# Altium footprint library PcbLib1.PcbLib: 13 footprints
Each footprint in its own frame and in the unit in brackets; x right, y up, seen from the top. Pads: shape width x height; smd on the part's side, far side on the other; paste and mask are expansions set on the pad; w line width, h text height; cw(c..) or ccw(c..) is an arc to the next point about the centre after c.
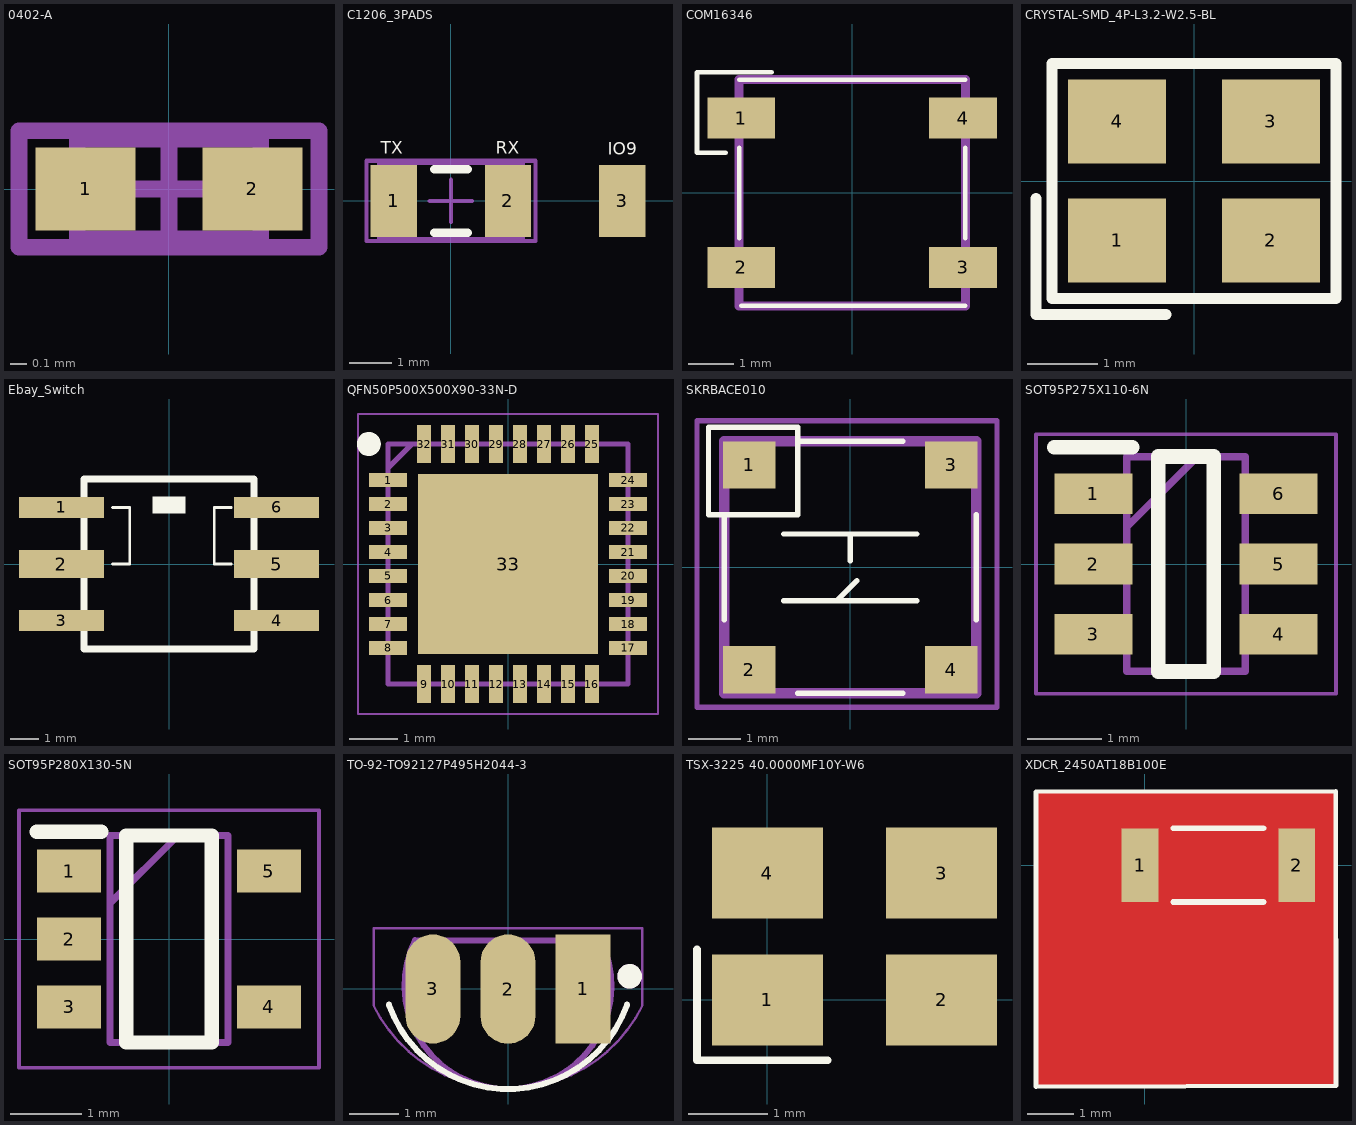
[diagram p0: the footprints below, top view; thin cyan lines are the x and y axes]

## 0402-A [mm] "Chip Inductor, Body 1.0x0.5mm, IPC High Density"
height 0.55
pads (2):
  rect 0.6x0.5 smd: 1(-0.5,0) 2(0.5,0)
Mechanical 13:
  lines w0.1: -0.55,-0.3 0.55,-0.3 0.55,0.3 -0.55,0.3 -0.55,-0.3
Mechanical 15:
  lines w0.1: -0.3,0 0.3,0 ; 0,-0.3 0,0.3 ; -0.9,-0.35 0.9,-0.35 0.9,0.35 -0.9,0.35 -0.9,-0.35
3D body: height 0.55, standoff 0, extent -0.55,-0.3 0.55,0.3

## C1206_3PADS [mm] "Chip Capacitor, Body 3.2x1.6mm, IPC High Density"
height 1.3
pads (3):
  rect 1.1x1.7 smd: 1(-1.35,0) 2(1.35,0) 3(4.05,0)
Top Overlay:
  lines w0.2: -0.4,-0.75 0.4,-0.75 ; -0.4,0.75 0.4,0.75
  text "IO9" at 3.71,0.983 h0.5
  text "RX" at 1.057,1.017 h0.5
  text "TX" at -1.663,1.016 h0.5
Mechanical 13:
  lines w0.1: -1.7,-0.9 -1.7,0.9 1.7,0.9 1.7,-0.9 -1.7,-0.9
Mechanical 15:
  lines w0.1: -0.5,0 0.5,0 ; 0,-0.5 0,0.5 ; -2,-0.95 -2,0.95 2,0.95 2,-0.95 -2,-0.95
3D body: height 1.3, standoff 0, extent -1.7,-0.9 1.7,0.9
3D body: height 1.3, standoff 0, extent 1.061,-0.899 4.461,0.901

## COM16346 [mm]
pads (4):
  rect 1.5x0.9 smd: 1(-2.45,1.65) 2(-2.45,-1.65) 3(2.45,-1.65) 4(2.45,1.65)
Top Overlay:
  lines w0.1: -2.794,0.889 -3.429,0.889 -3.429,1.143 -3.429,2.667 -1.778,2.667 ; -2.5,-1 -2.5,1 ; -2.5,2.5 2.5,2.5 ; -2.45,-2.5 2.5,-2.5 ; 2.5,-1 2.5,1
Mechanical 13:
  lines w0.2: -2.5,-2.5 -2.5,2.5 2.5,2.5 2.5,-2.5 -2.5,-2.5
3D body "COM-16346.stp": height 1.62, standoff 0, extent -2.7,-2.5 2.7,2.5

## CRYSTAL-SMD_4P-L3.2-W2.5-BL [mm]
pads (4):
  rect 1.4x1.2 smd: 1(-1.1,-0.85) 2(1.1,-0.85) 3(1.1,0.85) 4(-1.1,0.85)
Top Overlay:
  lines w0.152: -2.257,-0.25 -2.257,-1.907 -0.4,-1.907 ; -2.029,-1.678 2.029,-1.678 2.029,1.679 -2.029,1.679 -2.029,-1.678
Mechanical 15:
  circle w0.36: c-1.143,-0.889 r0.18

## Ebay_Switch [mm] "https://www.ebay.com/itm/323746937370?mkcid=16&mkevt=1&mkrid=711-127632-2357-0&ssspo=xJZQsVTjQLO&sssrc=2349624&ssuid=lcKLUUn4S_6&var=512741974944&widget_ver=artemis&media=COPY"
pads (6):
  rect 3x0.75 smd: 1(-3.8,2) 3(-3.8,-2) 4(3.8,-2) 6(3.8,2)
  rect 3x1 smd: 2(-3.8,0) 5(3.8,0)
Top Overlay:
  rectangle: -0.58,1.782 0.58,2.392
  lines w0.1: -2,0 -1.385,0 -1.385,2 -2,2 ; 2.2,0 1.6,0 1.6,2 2.2,2
  lines w0.254: -3,-3 -3,3 3,3 3,-3 -3,-3

## PCBComponent_1 [mm]

## QFN50P500X500X90-33N-D [mm]
pads (33):
  rect 0.8x0.3 smd: 1(-2.5,1.75) 2(-2.5,1.25) 3(-2.5,0.75) 4(-2.5,0.25) 5(-2.5,-0.25) 6(-2.5,-0.75) 7(-2.5,-1.25) 8(-2.5,-1.75) 17(2.5,-1.75) 18(2.5,-1.25) 19(2.5,-0.75) 20(2.5,-0.25) 21(2.5,0.25) 22(2.5,0.75) 23(2.5,1.25) 24(2.5,1.75)
  rect 0.3x0.8 smd: 9(-1.75,-2.5) 10(-1.25,-2.5) 11(-0.75,-2.5) 12(-0.25,-2.5) 13(0.25,-2.5) 14(0.75,-2.5) 15(1.25,-2.5) 16(1.75,-2.5) 25(1.75,2.5) 26(1.25,2.5) 27(0.75,2.5) 28(0.25,2.5) 29(-0.25,2.5) 30(-0.75,2.5) 31(-1.25,2.5) 32(-1.75,2.5)
  rect 3.75x3.75 smd: 33(0,0)
Top Overlay:
  circle w0.25: c-2.9,2.5 r0.125
Mechanical 13:
  lines w0.1: -2.5,2 -2,2.5 ; -2.5,-2.5 2.5,-2.5 2.5,2.5 -2.5,2.5 -2.5,-2.5
Mechanical 15:
  lines w0.05: -3.125,-3.125 3.125,-3.125 3.125,3.125 -3.125,3.125 -3.125,-3.125
3D body "ESP32-C3FN4.stp": height 0.9, standoff 0, extent -2.55,-2.55 2.55,2.55

## SKRBACE010 [mm]
pads (4):
  rect 1x0.9 smd: 1(-1.925,1.95) 2(-1.925,-1.95) 3(1.925,1.95) 4(1.925,-1.95)
Top Overlay:
  lines w0.1: -2.4,-1 -2.4,1 ; -1.27,-0.635 1.27,-0.635 ; -1.27,0.635 1.27,0.635 ; -1,-2.4 1,-2.4 ; -0.381,-0.635 -0.254,-0.635 0.127,-0.254 ; 0,0.127 0,0.635 ; 1,2.4 -1,2.4 ; 2.4,-1 2.4,1 ; -2.4,1 -2.7,1 -2.7,2.667 -1,2.667 -1,2.4 ; -2.4,1 -1,1 -1,2.4
Mechanical 13:
  lines w0.2: -2.4,-2.4 2.4,-2.4 2.4,2.4 -2.4,2.4 -2.4,-2.4
Mechanical 15:
  lines w0.1: -2.921,-2.667 2.794,-2.667 2.794,2.794 -2.921,2.794 -2.921,-2.667
3D body "SKRBACE010.stp": height 0.8, standoff 0, extent -2.4,-2.4 2.4,2.4

## SOT95P275X110-6N [mm]
pads (6):
  rect 1.05x0.55 smd: 1(-1.25,0.95) 2(-1.25,0) 3(-1.25,-0.95) 4(1.25,-0.95) 5(1.25,0) 6(1.25,0.95)
Top Overlay:
  lines w0.2: -1.775,1.575 -0.725,1.575 ; -0.375,-1.45 -0.375,1.45 0.375,1.45 0.375,-1.45 -0.375,-1.45
Mechanical 13:
  lines w0.1: -0.8,0.5 0.15,1.45 ; -0.8,-1.45 -0.8,1.45 0.8,1.45 0.8,-1.45 -0.8,-1.45
Mechanical 15:
  lines w0.05: -2.025,-1.75 -2.025,1.75 2.025,1.75 2.025,-1.75 -2.025,-1.75
3D body "MAX16054AZT+T.stp": height 1.1, standoff 0, extent -1.375,-1.45 1.375,1.45

## SOT95P280X130-5N [mm]
pads (5):
  rect 0.9x0.6 smd: 1(-1.4,0.95) 2(-1.4,0) 3(-1.4,-0.95) 4(1.4,-0.95) 5(1.4,0.95)
Top Overlay:
  lines w0.2: -1.85,1.5 -0.95,1.5 ; -0.6,-1.45 0.6,-1.45 0.6,1.45 -0.6,1.45 -0.6,-1.45
Mechanical 13:
  lines w0.1: -0.825,0.5 0.125,1.45 ; -0.825,-1.45 0.825,-1.45 0.825,1.45 -0.825,1.45 -0.825,-1.45
Mechanical 15:
  lines w0.05: -2.1,-1.8 2.1,-1.8 2.1,1.8 -2.1,1.8 -2.1,-1.8
3D body "XC6210B332MR-G.stp": height 1.3, standoff 0, extent -1.4,-1.45 1.4,1.45

## TO-92-TO92127P495H2044-3 [mm]
pads (3):
  rect 1.11x2.22 smd: 1(1.524,0)
  oval 1.11x2.22 smd: 2(0,-0.002) 3(-1.524,0)
Top Overlay:
  circle w0.25: c2.473,0.258 r0.125
  lines w0.12: -2.421,-0.318 ccw(c0,0.534) 2.421,-0.318
Mechanical 13:
  circle w0.25: c2.473,0.258 r0.125
  lines w0.12: -1.892,0.986 1.893,0.986 ; -1.885,0.994 ccw(c0.001,0.069) 1.886,0.994
Mechanical 15:
  lines w0.05: -2.731,-0.336 ccw(c0,1.015) 2.731,-0.336 ; -2.73,-0.312 -2.73,1.238 2.73,1.238 2.73,-0.312
3D body "TO-92.stp": height 8.93, standoff -0.25, extent -2.291,-1.752 2.281,1.808

## TSX-3225 40.0000MF10Y-W6 [mm]
pads (4):
  rect 1.4x1.15 smd: 1(0,0) 2(2.2,0) 3(2.2,1.6) 4(0,1.6)
Top Overlay:
  lines w0.1: -0.889,0.635 -0.889,-0.762 0.762,-0.762

## XDCR_2450AT18B100E [mm]
pads (2):
  rect 0.8x1.6 smd: 1(-0.1,0) 2(3.3,0)
Top Layer:
  pour cut-out: -2.344,1.58 -2.355,1.603 -2.321,1.603 4.128,1.603 4.128,-4.76 4.144,-4.776 4.118,-4.802 -2.35,-4.802 -2.35,1.575 -2.355,1.579
Bottom Layer:
  pour cut-out: -2.35,1.59 4.116,1.59 4.133,1.607 4.151,1.59 4.151,-4.786 4.128,-4.81 -2.35,-4.81 -2.35,1.583 -2.355,1.587
Top Overlay:
  lines w0.1: -2.356,-4.805 -2.356,-0.805 -2.356,1.59 4.144,1.608 4.151,-4.787 -2.349,-4.805
  lines w0.127: 0.62,-0.8 2.58,-0.8 ; 0.62,0.8 2.58,0.8
Mechanical 13:
  lines w0.127: 0,-0.8 3.2,-0.8 3.2,0.8 0,0.8 0,-0.8
Mechanical 15:
  lines w0.05: -0.75,-1.05 -0.75,1.05 3.95,1.05 3.95,-1.05 -0.75,-1.05
3D body "step_temp.STEP": height 1.45, standoff 0.05, extent 0,-0.8 3.2,0.8